# Altium integrated library WP-BUFU.intlib: 7 symbols
Pins are listed as number, name and electrical type; pins without a type are passive.

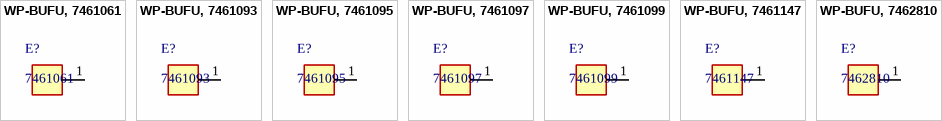
[diagram p0: symbols WP-BUFU, 7461061 to WP-BUFU, 7462810]

## WP-BUFU, 7461061
designator E?, comment 7461061
Power Elements_Power Elements Bushes, M10, blind 11mm; Manufacturer: Wurth Elektronik; partNo: 7461061; ComponentLink1Description: Manufacturer; ComponentLink1URL: http://www.we-online.de; Created by: Baojun Chen; Created Date: Dec.2015; ComponentLink2Description: Datasheet; ComponentLink2URL: http://katalog.we-online.de/em/datasheet/7461061.pdf
footprint 7461061_Chemical Surface (M10, blind 11mm)
footprint 7461061_HAL Surface (M10, blind 11mm)
pins: 1

## WP-BUFU, 7461093
designator E?, comment 7461093
Power Elements_Power Elements Bushes, M3, blind 6mm; Manufacturer: Wurth Elektronik; partNo: 7461093; ComponentLink1Description: Manufacturer; ComponentLink1URL: http://www.we-online.de; Created by: Baojun Chen; Created Date: Dec.2015; ComponentLink2Description: Datasheet; ComponentLink2URL: http://katalog.we-online.de/em/datasheet/7461093.pdf
footprint 7461093_Chemical Surface (M3, blind 6mm)
footprint 7461093_HAL Surface (M3, blind 6mm)
pins: 1

## WP-BUFU, 7461095
designator E?, comment 7461095
Power Elements_Power Elements Bushes, M4, blind 4mm; Manufacturer: Wurth Elektronik; partNo: 7461095; ComponentLink1Description: Manufacturer; ComponentLink1URL: http://www.we-online.de; Created by: Baojun Chen; Created Date: Dec.2015; ComponentLink2Description: Datasheet; ComponentLink2URL: http://katalog.we-online.de/em/datasheet/7461095.pdf
footprint 7461095_Chemical Surface (M4, blind 4mm)
footprint 7461095_HAL Surface (M4, blind 4mm)
pins: 1

## WP-BUFU, 7461097
designator E?, comment 7461097
Power Elements_Power Elements Bushes, M6, blind 6.5mm; Manufacturer: Wurth Elektronik; partNo: 7461097; ComponentLink1Description: Manufacturer; ComponentLink1URL: http://www.we-online.de; Created by: Baojun Chen; Created Date: Dec.2015; ComponentLink2Description: Datasheet; ComponentLink2URL: http://katalog.we-online.de/em/datasheet/7461097.pdf
footprint 7461097_Chemical Surface (M6, blind 6.5mm)
footprint 7461097_HAL Surface (M6, blind 6.5mm)
pins: 1

## WP-BUFU, 7461099
designator E?, comment 7461099
Power Elements_Power Elements Bushes, M8, blind 8mm; Manufacturer: Wurth Elektronik; partNo: 7461099; ComponentLink1Description: Manufacturer; ComponentLink1URL: http://www.we-online.de; Created by: Baojun Chen; Created Date: Dec.2015; ComponentLink2Description: Datasheet; ComponentLink2URL: http://katalog.we-online.de/em/datasheet/7461099.pdf
footprint 7461099_Chemical Surface (M8, blind 8mm)
footprint 7461099_HAL Surface (M8, blind 8mm)
pins: 1

## WP-BUFU, 7461147
designator E?, comment 7461147
Power Elements_Power Elements Bushes, M5, blind 4mm; Manufacturer: Wurth Elektronik; partNo: 7461147; ComponentLink1Description: Manufacturer; ComponentLink1URL: http://www.we-online.de; Created by: Baojun Chen; Created Date: Dec.2015; ComponentLink2Description: Datasheet; ComponentLink2URL: http://katalog.we-online.de/em/datasheet/7461147.pdf
footprint 7461147_Chemical Surface (M5, blind 4mm)
footprint 7461147_HAL Surface (M5, blind 4mm)
pins: 1

## WP-BUFU, 7462810
designator E?, comment 7462810
Power Elements_Power Elements Bushes, M3, blind 4mm; Manufacturer: Wurth Elektronik; partNo: 7462810; ComponentLink1Description: Manufacturer; ComponentLink1URL: http://www.we-online.de; Created by: Baojun Chen; Created Date: Dec.2015; ComponentLink2Description: Datasheet; ComponentLink2URL: http://katalog.we-online.de/em/datasheet/7462810.pdf
footprint 7462810_Chemical Surface (M3, blind 4mm)
footprint 7462810_HAL Surface (M3, blind 4mm)
pins: 1